# Altium footprint library RayPCB20210502.PcbLib: 211 footprints (part 8 of 14)
Each footprint in its own frame and in the unit in brackets; x right, y up, seen from the top. Pads: shape width x height; smd on the part's side, far side on the other; paste and mask are expansions set on the pad; w line width, h text height; cw(c..) or ccw(c..) is an arc to the next point about the centre after c.
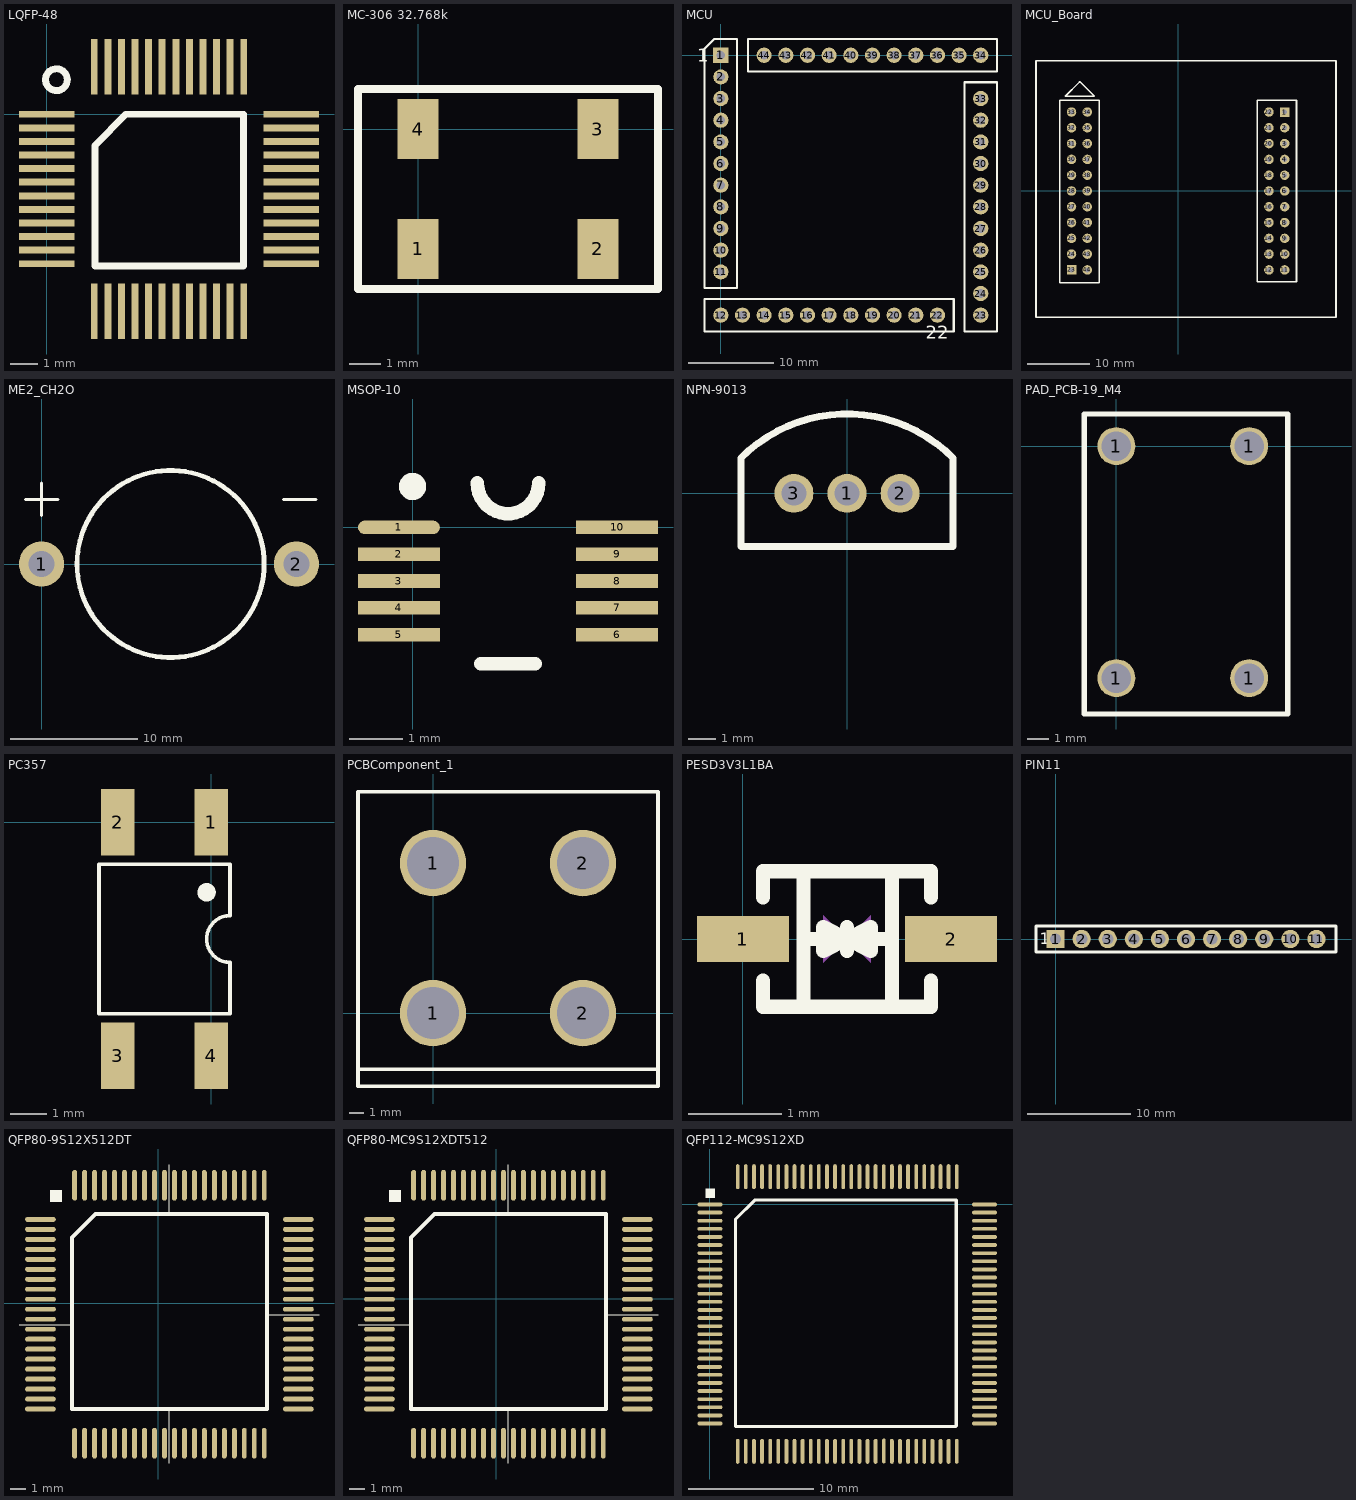
[diagram p7: the footprints below, top view; thin cyan lines are the x and y axes]

## LQFP-48 [mil]
pads (48):
  rect 80x10 smd: 1(0,0) 2(0,-19.68) 3(0,-39.37) 4(0,-59.06) 5(0,-78.74) 6(0,-98.43) 7(0,-118.11) 8(0,-137.8) 9(0,-157.48) 10(0,-177.17) 11(0,-196.85) 12(0,-216.54) 25(354.33,-216.54) 26(354.33,-196.85) 27(354.33,-177.17) 28(354.33,-157.48) 29(354.33,-137.8) 30(354.33,-118.11) 31(354.33,-98.43) 32(354.33,-78.74) 33(354.33,-59.06) 34(354.33,-39.37) 35(354.33,-19.68) 36(354.33,0)
  rect 10x80 smd: 13(68.9,-285.43) 14(88.58,-285.43) 15(108.27,-285.43) 16(127.95,-285.43) 17(147.64,-285.43) 18(167.32,-285.43) 19(187.01,-285.43) 20(206.69,-285.43) 21(226.38,-285.43) 22(246.06,-285.43) 23(265.75,-285.43) 24(285.43,-285.43) 37(285.43,68.9) 38(265.75,68.9) 39(246.06,68.9) 40(226.38,68.9) 41(206.69,68.9) 42(187.01,68.9) 43(167.32,68.9) 44(147.64,68.9) 45(127.95,68.9) 46(108.27,68.9) 47(88.58,68.9) 48(68.9,68.9)
Top Overlay:
  circle w10: c14.19,50 r15.81
  lines w10: 70,-220 70,-45 115,0 285,0 285,-220 70,-220

## MC-306 32.768k [mm]
pads (4):
  rect 1.3x1.9 smd: 1(0,-3.81) 2(5.715,-3.81) 3(5.715,0) 4(0,0)
Top Overlay:
  lines w0.254: -1.905,-5.08 -1.905,1.27 7.62,1.27 7.62,-5.08 -1.905,-5.08

## MCU [mil]
pads (44):
  rect 70x70 hole 40: 1(0,0)
  round 70 hole 40: 2(0,-100) 3(0,-200) 4(0,-300) 5(0,-400) 6(0,-500) 7(0,-600) 8(0,-700) 9(0,-800) 10(0,-900) 11(0,-1000) 12(0,-1200) 13(100,-1200) 14(200,-1200) 15(300,-1200) 16(400,-1200) 17(500,-1200) 18(600,-1200) 19(700,-1200) 20(800,-1200) 21(900,-1200) 22(1000,-1200) 23(1200,-1200) 24(1200,-1100) 25(1200,-1000) 26(1200,-900) 27(1200,-800) 28(1200,-700) 29(1200,-600) 30(1200,-500) 31(1200,-400) 32(1200,-300) 33(1200,-200) 34(1200,0) 35(1100,0) 36(1000,0) 37(900,0) 38(800,0) 39(700,0) 40(600,0) 41(500,0) 42(400,0) 43(300,0) 44(200,0)
Top Overlay:
  lines w10: -75,-1275 -75,-1125 1075,-1125 1075,-1275 -75,-1275 ; -75,-1075 75,-1075 75,75 -30,75 -35,70 -75,30 -75,-1075 ; 125,-75 125,75 1275,75 1275,-75 125,-75 ; 1125,-1275 1275,-1275 1275,-125 1125,-125 1125,-1275
  text "1" at -110,-30 h60
  text "22" at 945,-1310 h60

## MCU_Board [mil]
pads (44):
  rect 60x60 hole 30: 1(675,500) 23(-675,-500)
  round 60 hole 30: 2(675,400) 3(675,300) 4(675,200) 5(675,100) 6(675,0) 7(675,-100) 8(675,-200) 9(675,-300) 10(675,-400) 11(675,-500) 12(575,-500) 13(575,-400) 14(575,-300) 15(575,-200) 16(575,-100) 17(575,0) 18(575,100) 19(575,200) 20(575,300) 21(575,400) 22(575,500) 24(-675,-400) 25(-675,-300) 26(-675,-200) 27(-675,-100) 28(-675,0) 29(-675,100) 30(-675,200) 31(-675,300) 32(-675,400) 33(-675,500) 34(-575,500) 35(-575,400) 36(-575,300) 37(-575,200) 38(-575,100) 39(-575,0) 40(-575,-100) 41(-575,-200) 42(-575,-300) 43(-575,-400) 44(-575,-500)
Top Overlay:
  lines w10: -900,-800 -900,825 1000,825 1000,-800 -900,-800 ; -750,-580 -500,-580 -500,575 -750,575 -750,550 -750,-580 ; -715,600 -530,600 -620,690 -625,690 -715,600 ; 500,-575 750,-575 750,575 500,575 500,-575

## ME2_CH2O [mil] "CH2O SENSOR"
pads (2):
  round 140 hole 80: 1(0,0) 2(790,0)
Top Overlay:
  circle w15: c400,0 r290
  lines w10: -50,200 50,200 ; 0,150 0,250 ; 750,200 850,200

## MSOP-10 [mil] "RM-10(AD8475)"
pads (10):
  oval 60x10 smd: 1(-10,0)
  rect 60x10 smd: 2(-10,-19.68) 3(-10,-39.37) 4(-10,-59.06) 5(-10,-78.74) 6(150,-78.74) 7(150,-59.06) 8(150,-39.37) 9(150,-19.68) 10(150,0)
Top Overlay:
  circle w10: c0,30 r5
  lines w10: 47.5,32.5 ccw(c70,32.5) 92.5,32.5 ; 50,-100 90,-100

## NPN-9013 [mil]
pads (3):
  round 55 hole 35: 1(0,0) 2(75,0) 3(-75,0)
Top Overlay:
  lines w10: -150,-75 -150,50 cw(c0,-100) 150,50 150,-75 -150,-75

## PAD_PCB-19_M4 [mm]
pads (4):
  round 1.8 hole 1.4: 1(0,-11) 1(0,0) 1(6.3,-11) 1(6.3,0)
Top Overlay:
  lines w0.254: -1.524,-12.7 -1.524,1.524 8.128,1.524 8.128,-12.7 -1.524,-12.7

## PC357 [mm]
pads (4):
  rect 0.9x1.8 smd: 1(0,0) 2(-2.54,0) 3(-2.54,-6.35) 4(0,-6.35)
Top Overlay:
  circle w0.25: c-0.127,-1.907 r0.125
  lines w0.1: -3.048,-5.207 -3.048,-1.143 0.508,-1.143 0.508,-2.54 ccw(c0.508,-3.175) 0.508,-3.81 0.508,-5.207 -3.048,-5.207

## PCBComponent_1 [mm]
pads (4):
  round 4.5 hole 3.5: 1(0,0) 1(0,10.16) 2(10.16,0) 2(10.16,10.16)
Top Overlay:
  lines w0.254: -5.08,-3.81 15.24,-3.81 ; -5.08,-4.953 15.24,-4.953 15.24,14.986 -5.08,14.986 -5.08,-4.953

## PCBComponent_1 - duplicate [mil]

## PESD3V3L1BA [mm]
pads (2):
  rect 0.985x0.49 smd: 1(0,0) 2(2.235,0)
Top Overlay:
  lines w0.152: 0.216,-0.448 0.216,-0.726 2.019,-0.726 2.019,-0.448 ; 0.216,0.448 0.216,0.726 2.019,0.726 2.019,0.448 ; 0.651,-0.726 0.651,0.726 ; 1.601,-0.726 1.601,0.726
  lines w0.154: 0.651,0 1.601,0.003 ; 0.99,0 1.121,0 1.371,0.127 1.371,-0.127 1.12,-0.003 ; 1.115,0.003 0.863,0.127 0.863,-0.127 1.114,0 1.244,0 ; 1.117,-0.127 1.117,0.127
Mechanical 15:
  region: 1.371,-0.254 1.371,0.254 1.117,0
  region: 0.863,0.254 0.863,-0.254 1.117,0

## PIN11 [mil]
pads (11):
  rect 70x70 hole 43: 1(0,0)
  round 70 hole 43: 2(100,0) 3(200,0) 4(300,0) 5(400,0) 6(500,0) 7(600,0) 8(700,0) 9(800,0) 10(900,0) 11(1000,0)
Top Overlay:
  lines w10: -75,-50 1075,-50 1075,50 -75,50 -75,-50
  text "1" at -60,-20 h45

## QFP80-9S12X512DT [mm]
pads (80):
  oval 2x0.32 smd: 1(-7.67,5.465) 2(-7.67,4.815) 3(-7.67,4.165) 4(-7.67,3.515) 5(-7.67,2.865) 6(-7.67,2.215) 7(-7.67,1.565) 8(-7.67,0.915) 9(-7.67,0.265) 10(-7.67,-0.385) 11(-7.67,-1.035) 12(-7.67,-1.685) 13(-7.67,-2.335) 14(-7.67,-2.985) 15(-7.67,-3.635) 16(-7.67,-4.285) 17(-7.67,-4.935) 18(-7.67,-5.585) 19(-7.67,-6.235) 20(-7.67,-6.885) 41(9.13,-6.885) 42(9.13,-6.235) 43(9.13,-5.585) 44(9.13,-4.935) 45(9.13,-4.285) 46(9.13,-3.635) 47(9.13,-2.985) 48(9.13,-2.335) 49(9.13,-1.685) 50(9.13,-1.035) 51(9.13,-0.385) 52(9.13,0.265) 53(9.13,0.915) 54(9.13,1.565) 55(9.13,2.215) 56(9.13,2.865) 57(9.13,3.515) 58(9.13,4.165) 59(9.13,4.815) 60(9.13,5.465)
  oval 0.32x2 smd: 21(-5.445,-9.11) 22(-4.795,-9.11) 23(-4.145,-9.11) 24(-3.495,-9.11) 25(-2.845,-9.11) 26(-2.195,-9.11) 27(-1.545,-9.11) 28(-0.895,-9.11) 29(-0.245,-9.11) 30(0.405,-9.11) 31(1.055,-9.11) 32(1.705,-9.11) 33(2.355,-9.11) 34(3.005,-9.11) 35(3.655,-9.11) 36(4.305,-9.11) 37(4.955,-9.11) 38(5.605,-9.11) 39(6.255,-9.11) 40(6.905,-9.11) 61(6.905,7.69) 62(6.255,7.69) 63(5.605,7.69) 64(4.955,7.69) 65(4.305,7.69) 66(3.655,7.69) 67(3.005,7.69) 68(2.355,7.69) 69(1.705,7.69) 70(1.055,7.69) 71(0.405,7.69) 72(-0.245,7.69) 73(-0.895,7.69) 74(-1.545,7.69) 75(-2.195,7.69) 76(-2.845,7.69) 77(-3.495,7.69) 78(-4.145,7.69) 79(-4.795,7.69) 80(-5.445,7.69)
Top Overlay:
  rectangle: -7.035,6.608 -6.273,7.37
  lines w0.076: -9.067,-1.393 -5.618,-1.393 ; 0.712,-10.41 0.712,-6.881 ; 0.712,5.846 0.712,9.021 ; 7.062,-0.758 10.471,-0.758
  lines w0.254: -5.618,-6.881 -5.618,4.295 -4.094,5.819 7.082,5.819 7.082,-6.881 -5.11,-6.881 -5.618,-6.881

## QFP80-MC9S12XDT512 [mm]
pads (80):
  oval 2x0.32 smd: 1(-7.62,5.18) 2(-7.62,4.53) 3(-7.62,3.88) 4(-7.62,3.23) 5(-7.62,2.58) 6(-7.62,1.93) 7(-7.62,1.28) 8(-7.62,0.63) 9(-7.62,-0.02) 10(-7.62,-0.67) 11(-7.62,-1.32) 12(-7.62,-1.97) 13(-7.62,-2.62) 14(-7.62,-3.27) 15(-7.62,-3.92) 16(-7.62,-4.57) 17(-7.62,-5.22) 18(-7.62,-5.87) 19(-7.62,-6.52) 20(-7.62,-7.17) 41(9.18,-7.17) 42(9.18,-6.52) 43(9.18,-5.87) 44(9.18,-5.22) 45(9.18,-4.57) 46(9.18,-3.92) 47(9.18,-3.27) 48(9.18,-2.62) 49(9.18,-1.97) 50(9.18,-1.32) 51(9.18,-0.67) 52(9.18,-0.02) 53(9.18,0.63) 54(9.18,1.28) 55(9.18,1.93) 56(9.18,2.58) 57(9.18,3.23) 58(9.18,3.88) 59(9.18,4.53) 60(9.18,5.18)
  oval 0.32x2 smd: 21(-5.395,-9.395) 22(-4.745,-9.395) 23(-4.095,-9.395) 24(-3.445,-9.395) 25(-2.795,-9.395) 26(-2.145,-9.395) 27(-1.495,-9.395) 28(-0.845,-9.395) 29(-0.195,-9.395) 30(0.455,-9.395) 31(1.105,-9.395) 32(1.755,-9.395) 33(2.405,-9.395) 34(3.055,-9.395) 35(3.705,-9.395) 36(4.355,-9.395) 37(5.005,-9.395) 38(5.655,-9.395) 39(6.305,-9.395) 40(6.955,-9.395) 61(6.955,7.405) 62(6.305,7.405) 63(5.655,7.405) 64(5.005,7.405) 65(4.355,7.405) 66(3.705,7.405) 67(3.055,7.405) 68(2.405,7.405) 69(1.755,7.405) 70(1.105,7.405) 71(0.455,7.405) 72(-0.195,7.405) 73(-0.845,7.405) 74(-1.495,7.405) 75(-2.145,7.405) 76(-2.795,7.405) 77(-3.445,7.405) 78(-4.095,7.405) 79(-4.745,7.405) 80(-5.395,7.405)
Top Overlay:
  rectangle: -6.985,6.323 -6.223,7.085
  lines w0.076: -9.017,-1.678 -5.568,-1.678 ; 0.762,-10.695 0.762,-7.166 ; 0.762,5.561 0.762,8.736 ; 7.112,-1.043 10.521,-1.043
  lines w0.254: -5.568,-7.166 -5.06,-7.166 7.132,-7.166 7.132,5.534 -4.044,5.534 -5.568,4.01 -5.568,-7.166

## QFP112-MC9S12XD [mm] "112pin"
pads (112):
  oval 2x0.305 smd: 1(0,0) 2(0,-0.65) 3(0,-1.3) 4(0,-1.95) 5(0,-2.6) 6(0,-3.25) 7(0,-3.9) 8(0,-4.55) 9(0,-5.2) 10(0,-5.85) 11(0,-6.5) 12(0,-7.15) 13(0,-7.8) 14(0,-8.45) 15(0,-9.1) 16(0,-9.75) 17(0,-10.4) 18(0,-11.05) 19(0,-11.7) 20(0,-12.35) 21(-0.037,-13.015) 22(0,-13.65) 23(0,-14.3) 24(0,-14.95) 25(0,-15.6) 26(0,-16.25) 27(0,-16.9) 28(0,-17.55) 57(22,-17.55) 58(22,-16.9) 59(22,-16.25) 60(22,-15.6) 61(22,-14.95) 62(22,-14.3) 63(22,-13.65) 64(22,-13) 65(22,-12.35) 66(22,-11.7) 67(22,-11.05) 68(22,-10.4) 69(22,-9.75) 70(22,-9.1) 71(22,-8.45) 72(22,-7.8) 73(22,-7.15) 74(22,-6.5) 75(22,-5.85) 76(22,-5.2) 77(22,-4.55) 78(22,-3.9) 79(22,-3.25) 80(22,-2.6) 81(22,-1.95) 82(22,-1.3) 83(22,-0.65) 84(22,0)
  oval 0.305x2 smd: 29(2.225,-19.775) 30(2.875,-19.775) 31(3.525,-19.775) 32(4.175,-19.775) 33(4.825,-19.775) 34(5.475,-19.775) 35(6.125,-19.775) 36(6.775,-19.775) 37(7.425,-19.775) 38(8.075,-19.775) 39(8.725,-19.775) 40(9.375,-19.775) 41(10.025,-19.775) 42(10.675,-19.775) 43(11.325,-19.775) 44(11.975,-19.775) 45(12.625,-19.775) 46(13.275,-19.775) 47(13.933,-19.746) 48(14.575,-19.775) 49(15.225,-19.775) 50(15.875,-19.775) 51(16.525,-19.775) 52(17.175,-19.775) 53(17.825,-19.775) 54(18.475,-19.775) 55(19.125,-19.775) 56(19.775,-19.775) 85(19.775,2.225) 86(19.125,2.225) 87(18.475,2.225) 88(17.825,2.225) 89(17.175,2.225) 90(16.525,2.225) 91(15.875,2.225) 92(15.225,2.225) 93(14.575,2.225) 94(13.925,2.225) 95(13.275,2.225) 96(12.625,2.225) 97(11.975,2.225) 98(11.325,2.225) 99(10.675,2.225) 100(10.025,2.225) 101(9.375,2.225) 102(8.725,2.225) 103(8.075,2.225) 104(7.425,2.225) 105(6.775,2.225) 106(6.125,2.225) 107(5.475,2.225) 108(4.825,2.225) 109(4.175,2.225) 110(3.525,2.225) 111(2.875,2.225) 112(2.225,2.225)
Top Overlay:
  rectangle: -0.372,0.538 0.39,1.3
  lines w0.254: 19.718,-17.784 14.244,-17.784 2.052,-17.784 2.052,-12.346 2.052,-1.17 3.576,0.354 19.741,0.354 19.741,-12.346 19.741,-17.761